# EAGLE library part 74LVC1G74 (library carrilib)
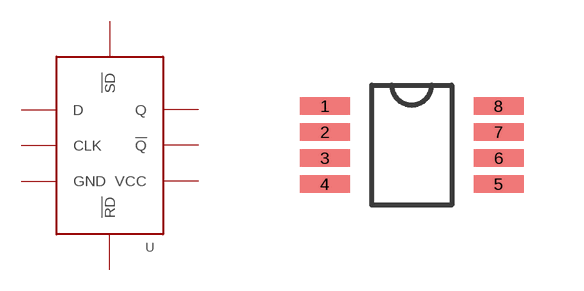
[diagram p36: symbol with the pads of TSSOP8; footprint TSSOP8]

Designator prefix -

## 74LVC1G74  [TSSOP8]
1  CLK
2  D
3  !Q
4  GND
5  Q
6  !RD
7  !SD
8  VCC

## Footprint TSSOP8 (pad centres in mm)
smd 1.25 x 0.43: 1 -2.175,0.975; 2 -2.175,0.325; 3 -2.175,-0.325; 4 -2.175,-0.975; 5 2.175,-0.975; 6 2.175,-0.325; 7 2.175,0.325; 8 2.175,0.975